# Altium schematic symbol library SCH - POWER - LINEAR VREG - TI LP2954KTT.SchLib: 1 symbol
Pins are listed as number, name and electrical type; pins without a type are passive.

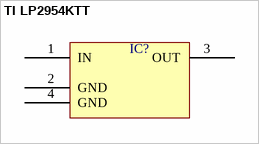
[diagram p0: symbol TI LP2954KTT]

## TI LP2954KTT
designator IC?  (value not drawn)
pins: 1 IN, 2 GND, 3 OUT, 4 GND